# Altium schematic symbol library INA219.SchLib: 1 symbol
Pins are listed as number, name and electrical type; pins without a type are passive.

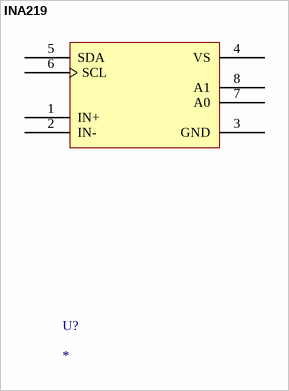
[diagram p0: symbol INA219]

## INA219
designator U?
pins: 1 IN+, 2 IN-, 3 GND, 4 VS, 5 SDA, 6 SCL, 7 A0, 8 A1